# Altium footprint library PCB - CONNECTOR - MOLEX - MOLEX 0744410001.PcbLib: 1 footprints
Each footprint in its own frame and in the unit in brackets; x right, y up, seen from the top. Pads: shape width x height; smd on the part's side, far side on the other; paste and mask are expansions set on the pad; w line width, h text height; cw(c..) or ccw(c..) is an arc to the next point about the centre after c.
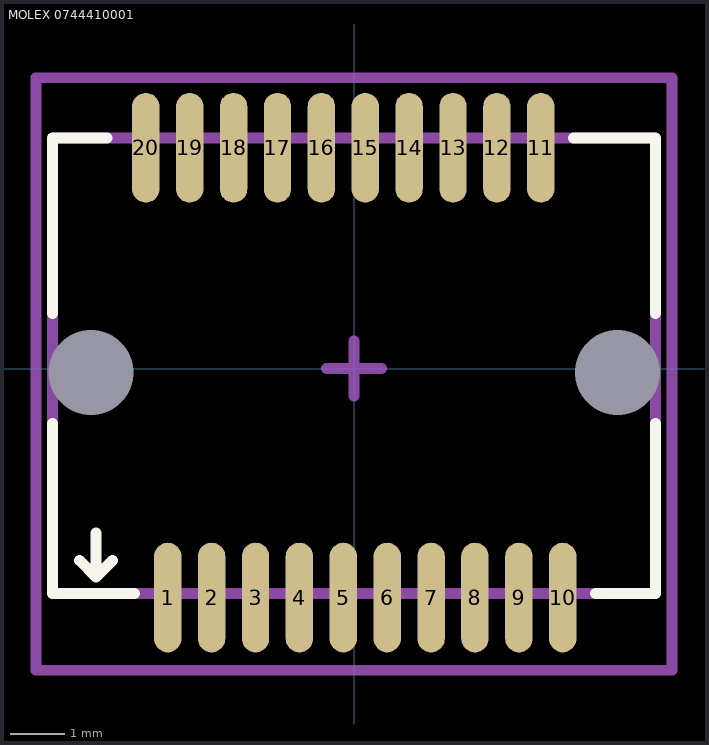
[diagram p0: the footprint, top view; thin cyan lines are the x and y axes]

## MOLEX 0744410001 [mm] "CONN SFP+ RCPT 20POS SLD R/A SMD"
height 5.37
pads (22):
  oval 0.5x2 smd: 1(-3.395,-4.175) 2(-2.595,-4.175) 3(-1.795,-4.175) 4(-0.995,-4.175) 5(-0.195,-4.175) 6(0.605,-4.175) 7(1.405,-4.175) 8(2.205,-4.175) 9(3.005,-4.175) 10(3.805,-4.175) 11(3.405,4.025) 12(2.605,4.025) 13(1.805,4.025) 14(1.005,4.025) 15(0.205,4.025) 16(-0.595,4.025) 17(-1.395,4.025) 18(-2.195,4.025) 19(-2.995,4.025) 20(-3.795,4.025)
  round 0 hole 1.55 unplated: M(-4.795,-0.075) M(4.805,-0.075)
Top Overlay:
  lines w0.2: -5.5,-1 -5.5,-4.1 -4,-4.1 ; -5.5,1 -5.5,4.2 -4.5,4.2 ; -5,-3.5 -4.7,-3.8 ; -4.7,-3 -4.7,-3.8 ; -4.4,-3.5 -4.7,-3.8 ; 4,4.2 5.5,4.2 5.5,1 ; 4.4,-4.1 5.5,-4.1 5.5,-1
Top Assembly:
  lines w0.2: -0.5,0 0.5,0 ; 0,-0.5 0,0.5 ; -5.5,-4.1 -5.5,4.2 5.5,4.2 5.5,-4.1 -5.5,-4.1
Top Courtyard (Mech15):
  lines w0.2: -5.8,-5.5 -5.8,5.3 5.8,5.3 5.8,-5.5 -5.8,-5.5
3D body "Molex 0744410001.step": height 5.37, standoff -0.9, extent -5.5,-4.625 5.5,4.525